# Altium schematic symbol library GPSpart.SCHLIB: 4 symbols
Pins are listed as number, name and electrical type; pins without a type are passive.

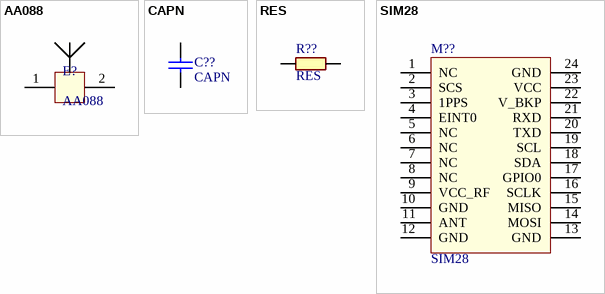
[diagram p0: symbols AA088 to SIM28]

## AA088
designator E?
ceramic SMD GPS antenna
footprint CAPC3216X14N (Chip Capacitor, 2-Leads, Body 3,20x1,60mm, IPC Medium Density)
pins: 1, 2

## CAPN
designator C??
footprint C-0603
footprint C-0805
footprint C-1206
footprint CAPC1608X08N (Chip Capacitor, 2-Leads, Body 1,60x0,80mm, IPC Medium Density)
pins: 1, 2

## RES
designator R??
footprint R-0603
footprint R-0805
footprint R-1206
footprint RESC1005X05N (Chip Resistor, 2-Leads, Body 1,05x0,54mm, IPC Medium Density)
footprint RESC1608X06N (Chip Resistor, 2-Leads, Body 1,60x0,82mm, IPC Medium Density)
footprint RESC2012X07N (Chip Resistor, 2-Leads, Body 2,00x1,25mm, IPC Medium Density)
footprint RESC3216X07N (Chip Resistor, 2-Leads, Body 3,20x1,60mm, IPC Medium Density)
footprint RESC3225X07N (Chip Resistor, 2-Leads, Body 3,20x2,49mm, IPC Medium Density)
pins: 1, 2

## SIM28
designator M??
footprint LGA24_GNSS
pins: 1 NC, 2 SCS, 3 1PPS, 4 EINT0, 5 NC, 6 NC, 7 NC, 8 NC, 9 VCC_RF, 10 GND, 11 ANT, 12 GND, 13 GND, 14 MOSI, 15 MISO, 16 SCLK, 17 GPIO0, 18 SDA, 19 SCL, 20 TXD, 21 RXD, 22 V_BKP, 23 VCC, 24 GND